# Altium schematic symbol library Components.SchLib: 7 symbols
Pins are listed as number, name and electrical type; pins without a type are passive.

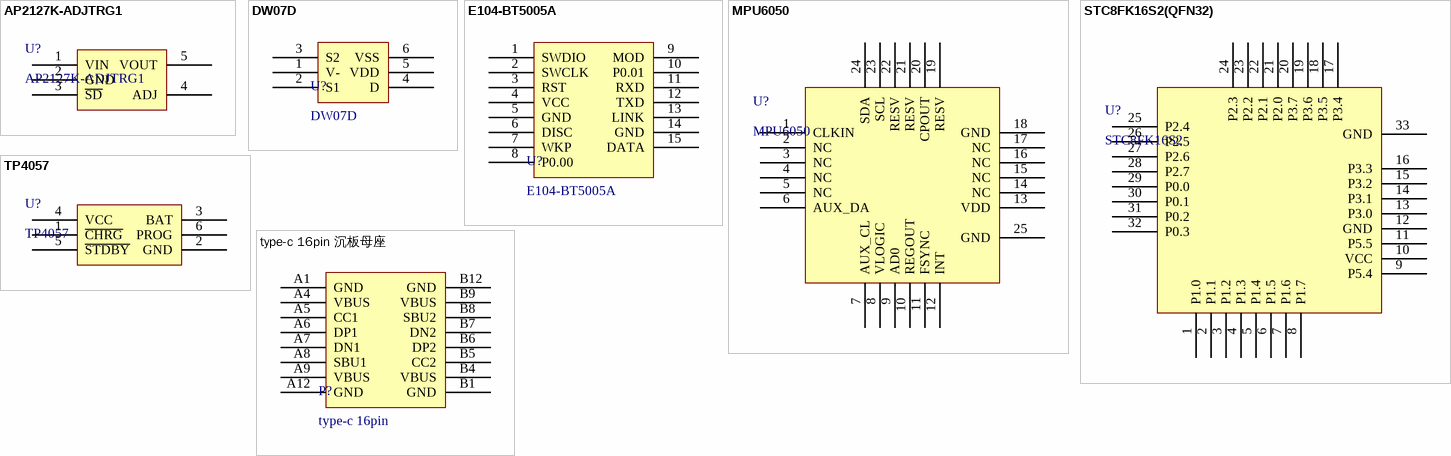
[diagram p0: symbols AP2127K-ADJTRG1 to type-c 16pin 沉板母座]

## AP2127K-ADJTRG1
designator U?
footprint SOT-23-5
pins: 1 VIN, 2 GND, 3 ~{SD}, 4 ADJ, 5 VOUT

## DW07D
designator U?
footprint SOT23-6L (3x1.6x1.1mm(长宽高) 封装库来自淘宝卖家 ID：黄晶宝石)
pins: 1 V-, 2 S1, 3 S2, 4 D, 5 VDD, 6 VSS

## E104-BT5005A
designator U?
footprint E104-BT5005A
pins: 1 SWDIO, 2 SWCLK, 3 RST, 4 VCC, 5 GND, 6 DISC, 7 WKP, 8 P0.00, 9 MOD, 10 P0.01, 11 RXD, 12 TXD, 13 LINK, 14 GND, 15 DATA

## MPU6050
designator U?
footprint QFN24 4x4_M (24脚，长x宽x高：4x4x1mm，脚距：0.5mm)
pins: 1 CLKIN, 2 NC, 3 NC, 4 NC, 5 NC, 6 AUX_DA, 7 AUX_CL, 8 VLOGIC, 9 AD0, 10 REGOUT, 11 FSYNC, 12 INT, 13 VDD, 14 NC, 15 NC, 16 NC, 17 NC, 18 GND, 19 RESV, 20 CPOUT, 21 RESV, 22 RESV, 23 SCL, 24 SDA, 25 GND

## STC8FK16S2(QFN32)
designator U?, comment STC8FK16S2
footprint QFN32 5x5_M (32脚，长x宽x高：5x5x0.95mm，脚距：0.5mm)
pins: 1 P1.0, 2 P1.1, 3 P1.2, 4 P1.3, 5 P1.4, 6 P1.5, 7 P1.6, 8 P1.7, 9 P5.4, 10 VCC, 11 P5.5, 12 GND, 13 P3.0, 14 P3.1, 15 P3.2, 16 P3.3, 17 P3.4, 18 P3.5, 19 P3.6, 20 P3.7, 21 P2.0, 22 P2.1, 23 P2.2, 24 P2.3, 25 P2.4, 26 P2.5, 27 P2.6, 28 P2.7, 29 P0.0, 30 P0.1, 31 P0.2, 32 P0.3, 33 GND

## TP4057
designator U?
footprint SOT-23-6
pins: 1 ~{CHRG}, 2 GND, 3 BAT, 4 VCC, 5 ~{STDBY}, 6 PROG

## type-c 16pin 沉板母座
designator P?, comment type-c 16pin
footprint type-c 16pin 沉板母座
pins: A1 GND, A4 VBUS, A5 CC1, A6 DP1, A7 DN1, A8 SBU1, A9 VBUS, A12 GND, B1 GND, B4 VBUS, B5 CC2, B6 DP2, B7 DN2, B8 SBU2, B9 VBUS, B12 GND